# Altium footprint library Hamamatsu.PcbLib: 1 footprints
Each footprint in its own frame and in the unit in brackets; x right, y up, seen from the top. Pads: shape width x height; smd on the part's side, far side on the other; paste and mask are expansions set on the pad; w line width, h text height; cw(c..) or ccw(c..) is an arc to the next point about the centre after c.
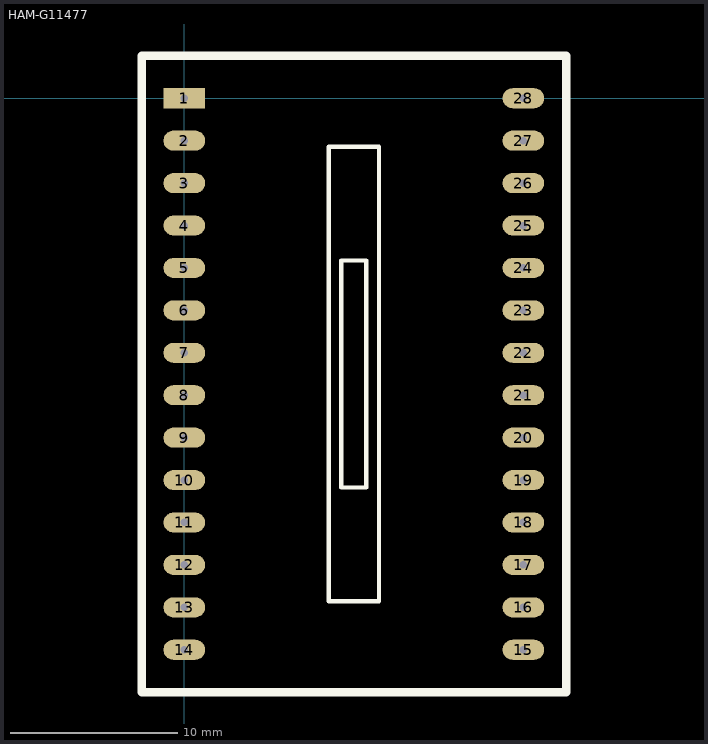
[diagram p0: the footprint, top view; thin cyan lines are the x and y axes]

## HAM-G11477 [mm]
pads (28):
  rect 2.5x1.2 hole 0.45: 1(0,0)
  oval 2.5x1.2 hole 0.45: 2(0,-2.54) 3(0,-5.08) 4(0,-7.62) 5(0,-10.16) 6(0,-12.7) 7(0,-15.24) 8(0,-17.78) 9(0,-20.32) 10(0,-22.86) 11(0,-25.4) 12(0,-27.94) 13(0,-30.48) 14(0,-33.02) 15(20.3,-33.02) 16(20.3,-30.48) 17(20.3,-27.94) 18(20.3,-25.4) 19(20.3,-22.86) 20(20.3,-20.32) 21(20.3,-17.78) 22(20.3,-15.24) 23(20.3,-12.7) 24(20.3,-10.16) 25(20.3,-7.62) 26(20.3,-5.08) 27(20.3,-2.54) 28(20.3,0)
Top Overlay:
  lines w0.254: 8.65,-30.11 8.65,-2.91 11.65,-2.91 11.65,-30.11 8.65,-30.11 ; 9.4,-23.31 9.4,-9.71 10.9,-9.71 10.9,-23.31 9.4,-23.31
  lines w0.5: -2.54,-35.56 -2.54,-16.51 -2.54,2.54 -1.27,2.54 21.59,2.54 22.86,2.54 22.86,-16.51 22.86,-35.56 -2.54,-35.56